# EAGLE library part DS1708 (library Traficon)
CT: 05-03-2008 : changed name to DS1708 and set the SESA-suffix in the package name updated the symbol
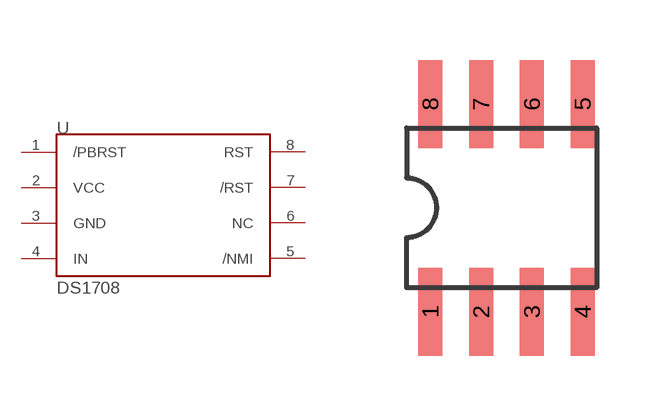
[diagram p142: symbol with the pads of SOIC8; footprint SOIC8]

Designator prefix U

## DS1708SESA  [SOIC8]
1  /PBRST  in
2  VCC  pwr
3  GND  pwr
4  IN  in
5  /NMI  out
6  NC  nc
7  /RST  out
8  RST  out

## Footprint SOIC8 (pad centres in mm)
Small Outline IC
smd 0.6 x 2.2: 1 -1.905,-2.6; 2 -0.635,-2.6; 3 0.635,-2.6; 4 1.905,-2.6; 5 1.905,2.6; 6 0.635,2.6; 7 -0.635,2.6; 8 -1.905,2.6